# Altium footprint library NCP1117DT50RKG.PcbLib: 3 footprints
Each footprint in its own frame and in the unit in brackets; x right, y up, seen from the top. Pads: shape width x height; smd on the part's side, far side on the other; paste and mask are expansions set on the pad; w line width, h text height; cw(c..) or ccw(c..) is an arc to the next point about the centre after c.
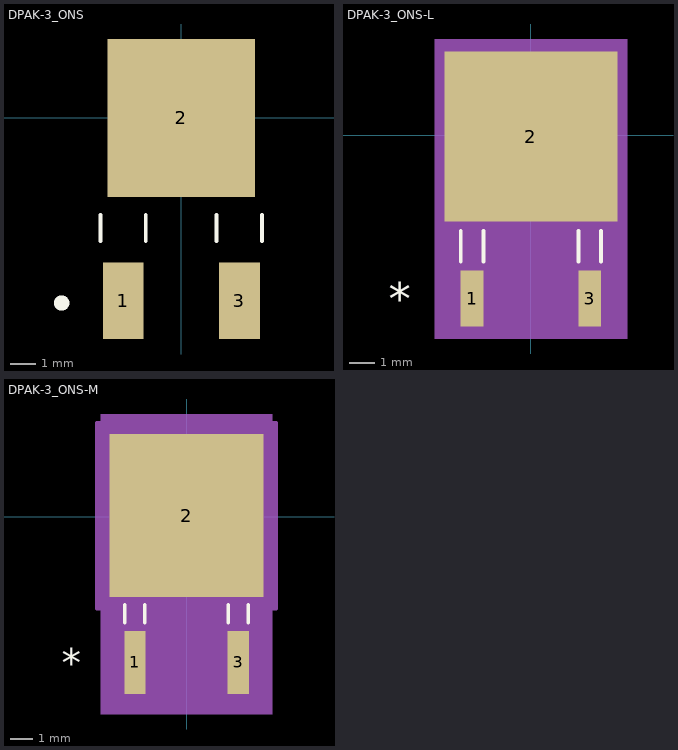
[diagram p0: the footprints below, top view; thin cyan lines are the x and y axes]

## DPAK-3_ONS [mm]
pads (3):
  rect 1.6x3 smd paste+0 mask+0: 1(-2.28,-7.18) 3(2.28,-7.18)
  rect 5.8x6.2 smd paste+0 mask+0: 2(0,0)
Top Overlay:
  circle w0.5: c-4.702,-7.264 r0.05
  lines w0.152: -3.175,-4.826 -3.175,-3.813 ; -1.397,-4.826 -1.397,-3.813 ; 1.386,-4.827 1.386,-3.814 ; 3.164,-4.827 3.164,-3.814

## DPAK-3_ONS-L [mil]
pads (3):
  rect 35x86 smd paste+0 mask+0: 1(-90.16,-250.5) 3(90.16,-250.5)
  rect 265x261 smd paste+0 mask+0: 2(0,-2)
Top Overlay:
  lines w6: -107.66,-193.5 -107.66,-146.5 ; -72.66,-193.5 -72.66,-146.5 ; 72.66,-193.5 72.66,-146.5 ; 107.66,-193.5 107.66,-146.5
  text "*" at -217.81,-275.5 h50
Mechanical 5:
  region: -147.5,147.5 147.5,147.5 147.5,-312.5 -147.5,-312.5
Mechanical 13:
  lines w1: -16.5,-122.5 -16.5,-155.5 16.5,-155.5 16.5,-122.5 ; -132.5,-122.5 132.5,-122.5 132.5,122.5 -132.5,122.5 -132.5,-122.5 ; -107.66,-287.5 -107.66,-122.5 -72.66,-122.5 -72.66,-287.5 -107.66,-287.5 ; 72.66,-287.5 72.66,-122.5 107.66,-122.5 107.66,-287.5 72.66,-287.5
  text "*" at -102.66,-137.5 h50
Mechanical 15:
  region: -111.66,-136.5 -136.5,-136.5 -136.5,132.5 136.5,132.5 136.5,-136.5 111.66,-136.5 111.66,-297.5 68.66,-297.5 68.66,-211.5 -68.66,-211.5 -68.66,-297.5 -111.66,-297.5
  lines w6: -136.5,-136.5 -136.5,132.5 136.5,132.5 136.5,-136.5 111.66,-136.5 111.66,-297.5 68.66,-297.5 68.66,-211.5 -68.66,-211.5 -68.66,-297.5 -111.66,-297.5 -111.66,-136.5 -136.5,-136.5
3D body "DPAK-3_ONS.step": height 67.09, standoff -2.01, extent -132.52,-195 132.52,122.6

## DPAK-3_ONS-M [mil]
pads (3):
  rect 37x110 smd paste+0 mask+0: 1(-90.16,-254.5) 3(90.16,-254.5)
  rect 269x285 smd paste+0 mask+0: 2(0,2)
Top Overlay:
  lines w6: -107.66,-185.5 -107.66,-153.6 ; -72.66,-185.5 -72.66,-153.6 ; 72.66,-185.5 72.66,-153.6 ; 107.66,-185.5 107.66,-153.6
  text "*" at -217.81,-279.5 h50
Mechanical 5:
  region: -149.5,179.5 149.5,179.5 149.5,-344.5 -149.5,-344.5
Mechanical 13:
  lines w1: -16.5,-122.5 -16.5,-155.5 16.5,-155.5 16.5,-122.5 ; -132.5,-122.5 132.5,-122.5 132.5,122.5 -132.5,122.5 -132.5,-122.5 ; -107.66,-287.5 -107.66,-122.5 -72.66,-122.5 -72.66,-287.5 -107.66,-287.5 ; 72.66,-287.5 72.66,-122.5 107.66,-122.5 107.66,-287.5 72.66,-287.5
  text "*" at -102.66,-137.5 h50
Mechanical 15:
  region: -127.66,-160.5 -156.5,-160.5 -156.5,164.5 156.5,164.5 156.5,-160.5 127.66,-160.5 127.66,-329.5 52.66,-329.5 52.66,-219.5 -52.66,-219.5 -52.66,-329.5 -127.66,-329.5
  lines w6: -156.5,-160.5 -156.5,164.5 156.5,164.5 156.5,-160.5 127.66,-160.5 127.66,-329.5 52.66,-329.5 52.66,-219.5 -52.66,-219.5 -52.66,-329.5 -127.66,-329.5 -127.66,-160.5 -156.5,-160.5
3D body "DPAK-3_ONS.step": height 67.09, standoff -2.01, extent -132.52,-195 132.52,122.6